# EAGLE library part 74ACT2235 (library fifo)
FIFO
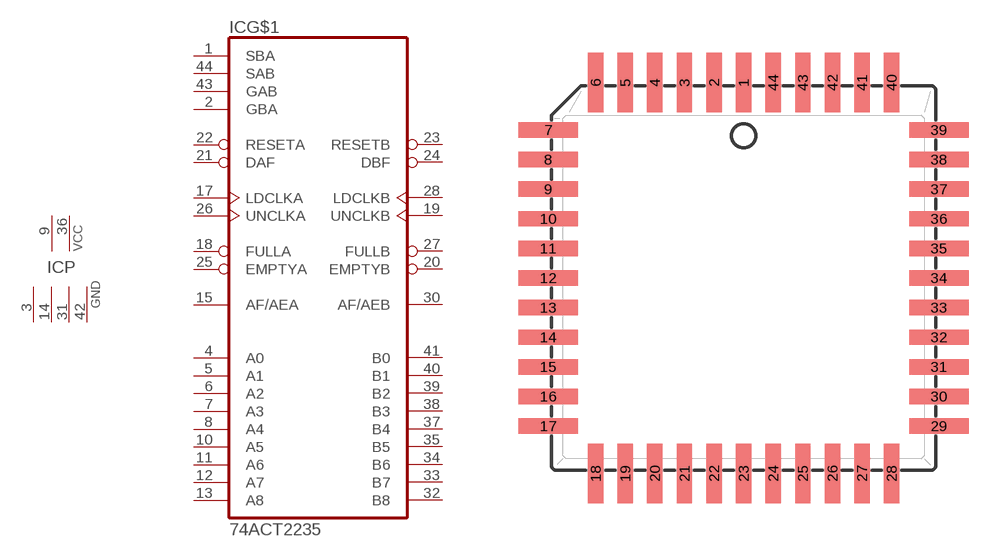
[diagram p3: symbol with the pads of PLCC44; footprint PLCC44]

Designator prefix IC; gates G$1=2235 P=2PWR4GND

## 74ACT2235  [PLCC44]
1  G$1:SBA  in
2  G$1:GBA  in
3  P:GND  pwr
4  G$1:A0
5  G$1:A1
6  G$1:A2
7  G$1:A3
8  G$1:A4
9  P:VCC  pwr
10  G$1:A5
11  G$1:A6
12  G$1:A7
13  G$1:A8
14  P:GND  pwr
15  G$1:AF/AEA  out
17  G$1:LDCLKA  in
18  G$1:FULLA  out
19  G$1:UNCLKB  in
20  G$1:EMPTYB  out
21  G$1:DAF
22  G$1:RESETA
23  G$1:RESETB
24  G$1:DBF
25  G$1:EMPTYA  out
26  G$1:UNCLKA  in
27  G$1:FULLB  out
28  G$1:LDCLKB  in
30  G$1:AF/AEB  out
31  P:GND  pwr
32  G$1:B8
33  G$1:B7
34  G$1:B6
35  G$1:B5
36  P:VCC  pwr
37  G$1:B4
38  G$1:B3
39  G$1:B2
40  G$1:B1
41  G$1:B0
42  P:GND  pwr
43  G$1:GAB  in
44  G$1:SAB  in

## Footprint PLCC44 (pad centres in mm)
Plastic Leaded Carrier Package
smd 0.66 x 2.54: 1 0,8.382; 2 -1.27,8.382; 3 -2.54,8.382; 4 -3.81,8.382; 5 -5.08,8.382; 6 -6.35,8.382; 18 -6.35,-8.382; 19 -5.08,-8.382; 20 -3.81,-8.382; 21 -2.54,-8.382; 22 -1.27,-8.382; 23 0,-8.382; 24 1.27,-8.382; 25 2.54,-8.382; 26 3.81,-8.382; 27 5.08,-8.382; 28 6.35,-8.382; 40 6.35,8.382; 41 5.08,8.382; 42 3.81,8.382; 43 2.54,8.382; 44 1.27,8.382
smd 2.54 x 0.66: 7 -8.382,6.35; 8 -8.382,5.08; 9 -8.382,3.81; 10 -8.382,2.54; 11 -8.382,1.27; 12 -8.382,0; 13 -8.382,-1.27; 14 -8.382,-2.54; 15 -8.382,-3.81; 16 -8.382,-5.08; 17 -8.382,-6.35; 29 8.382,-6.35; 30 8.382,-5.08; 31 8.382,-3.81; 32 8.382,-2.54; 33 8.382,-1.27; 34 8.382,0; 35 8.382,1.27; 36 8.382,2.54; 37 8.382,3.81; 38 8.382,5.08; 39 8.382,6.35